# EAGLE library part TL062 (library digital-toy)
Linear Devices dual Operational amplifiers, JFET-Input Stage Input offset voltage:typical 3mV(25C)
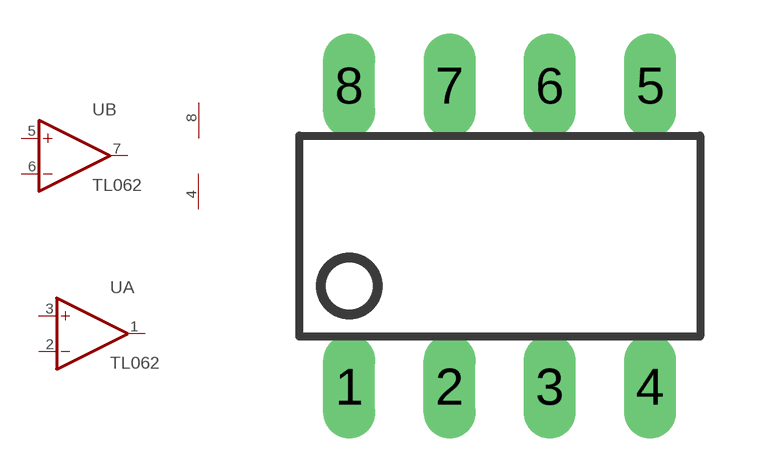
[diagram p7: symbol with the pads of DIP08-L; footprint DIP08-L]

Designator prefix -; gates A=OP-AMP B=OP-AMP P=OP-PWR+-

## TL062  [DIP08-L]
1  A:OUT  out
2  A:-IN  in
3  A:+IN  in
4  P:V-  pwr
5  B:+IN  in
6  B:-IN  in
7  B:OUT  out
8  P:V+  pwr

## Footprint DIP08-L (pad centres in mm)
drill 0.813 long: 1 0,-2.54; 2 2.54,-2.54; 3 5.08,-2.54; 4 7.62,-2.54; 5 7.62,5.08; 6 5.08,5.08; 7 2.54,5.08; 8 0,5.08